# Altium footprint library AG.LED.PcbLib: 7 footprints
Each footprint in its own frame and in the unit in brackets; x right, y up, seen from the top. Pads: shape width x height; smd on the part's side, far side on the other; paste and mask are expansions set on the pad; w line width, h text height; cw(c..) or ccw(c..) is an arc to the next point about the centre after c.
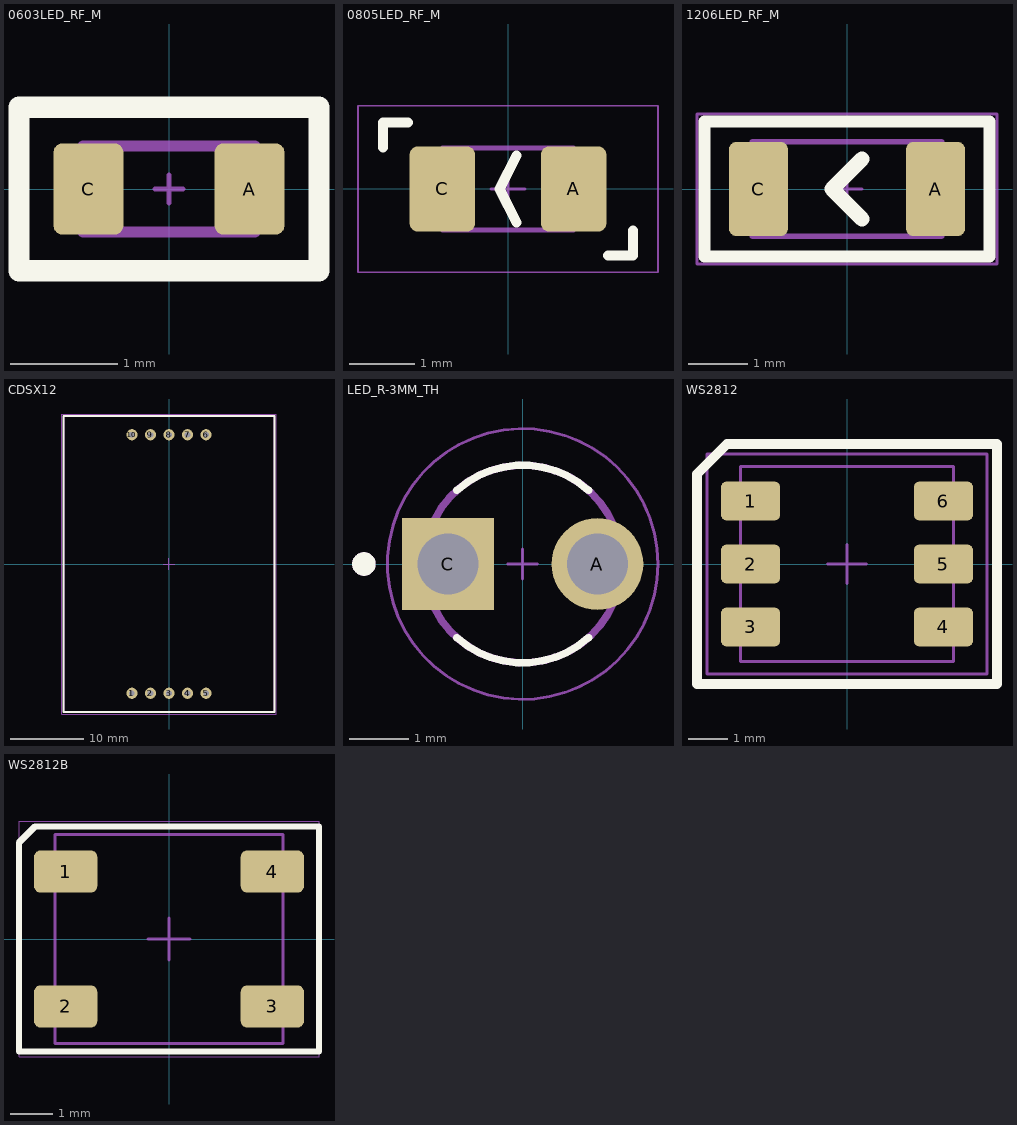
[diagram p0: the footprints below, top view; thin cyan lines are the x and y axes]

## 0603LED_RF_M [mm] "Chip LED 0603 Reflow Medium"
pads (2):
  rrect25% 0.65x0.85 smd: A(0.75,0) C(-0.75,0)
Top Overlay:
  lines w0.2: -1.397,-0.762 -1.397,0.762 1.397,0.762 1.397,-0.762 -1.397,-0.762
Mechanical 13:
  lines w0.1: -0.8,-0.4 -0.8,0.4 0.8,0.4 0.8,-0.4 -0.8,-0.4
Mechanical 15:
  lines w0.05: -0.127,0 0.127,0 ; 0,-0.127 0,0.127 ; -1.397,-0.762 1.397,-0.762 1.397,0.762 -1.397,0.762 -1.397,-0.762
3D body "LED-150060AS75000_WL-SMCW-0603.stp": height 0.7, standoff 0, extent -0.8,-0.4 0.8,0.4

## 0805LED_RF_M [mm] "Chip LED 0805 Reflow Medium"
pads (2):
  rrect25% 1x1.3 smd: A(1,0) C(-1,0)
Top Overlay:
  lines w0.152: -1.905,0.635 -1.905,1.016 -1.524,1.016 ; 0.127,-0.508 -0.127,0 0.127,0.508 ; 1.524,-1.016 1.905,-1.016 1.905,-0.635
Mechanical 13:
  lines w0.076: -1,-0.625 1,-0.625 1,0.625 -1,0.625 -1,-0.625
Mechanical 15:
  lines w0.025: -2.286,-1.27 2.286,-1.27 2.286,1.27 -2.286,1.27 -2.286,-1.27
  lines w0.051: -0.254,0 0.254,0 ; 0,-0.254 0,0.254
3D body "LED-150080AS75000-WL-SMCW-0805.stp": height 0.7, standoff 0, extent -1,-0.625 1,0.625

## 1206LED_RF_M [mm] "Chip LED 1206 Reflow Medium"
pads (2):
  rrect25% 1x1.6 smd: A(1.5,0) C(-1.5,0)
Top Overlay:
  lines w0.2: -2.413,-1.143 -2.413,1.143 2.413,1.143 2.413,-1.143 -2.413,-1.143
  lines w0.254: 0.254,-0.508 -0.254,0 0.254,0.508
Mechanical 13:
  lines w0.1: -1.6,-0.8 -1.6,0.8 1.6,0.8 1.6,-0.8 -1.6,-0.8
Mechanical 15:
  lines w0.05: -0.254,0 0.254,0 ; 0,-0.254 0,0.254 ; -2.54,-1.27 -2.54,1.27 2.54,1.27 2.54,-1.27 -2.54,-1.27
3D body "150120AS75000_Download_STP_WL-SMCW-1206_rev1.stp": height 0.68, standoff 0, extent -1.6,-0.8 1.6,0.8

## CDSX12 [mil] "DISPLAY 7SEG 1.20\" SGL RED DIP-10"
height 354
pads (10):
  round 60 hole 30: 1(-200,-698) 2(-100,-698) 3(0,-698) 4(100,-698) 5(200,-698) 6(200,698) 7(100,698) 8(0,698) 9(-100,698) 10(-200,698)
Top Overlay:
  lines w10: -570,-800 -570,800 570,800 570,-800 -570,-800
Mechanical 13:
  lines w3: -567,-801 -567,801 567,801 567,-801 -567,-801
Mechanical 15:
  lines w2: -30,0 30,0 ; 0,-30 0,30 ; -580,-810 -580,810 580,810 580,-810 -580,-810

## LED_R-3MM_TH [mm] "LED Radial 3mm Through Hole"
height 4.5
pads (2):
  round 1.56 hole 1.04: A(1.27,0)
  rect 1.56x1.56 hole 1.04: C(-1.27,0)
Top Overlay:
  circle w0.2: c-2.7,0 r0.1
  lines w0.127: -1.12,-1.25 ccw(c0,-0.006) 1.12,-1.25 ; -1.12,1.25 cw(c0,0.006) 1.12,1.25
Mechanical 13:
  circle w0.2: c-2.7,0 r0.1
  circle w0.127: c0,0 r1.68
Mechanical 15:
  circle w0.05: c0,0 r2.3
  lines w0.05: -0.254,0 0.254,0 ; 0,-0.254 0,0.254
3D body "LED-3mm-Red.STEP": height 3.89, standoff -2.99, extent -1.52,-1.923 1.925,1.923

## WS2812 [mm]
pads (6):
  rrect30% 1.5x1 smd: 1(-2.45,1.6) 2(-2.45,0) 3(-2.45,-1.6) 4(2.45,-1.6) 5(2.45,0) 6(2.45,1.6)
Top Overlay:
  lines w0.254: -3.81,-3.048 -3.81,2.286 -3.048,3.048 3.81,3.048 3.81,-3.048 -3.81,-3.048
Mechanical 13:
  lines w0.076: -2.7,-2.475 2.7,-2.475 2.7,2.475 -2.7,2.475 -2.7,-2.475
Mechanical 15:
  lines w0.076: -0.5,0 0.5,0 ; 0,-0.5 0,0.5 ; -3.556,-2.794 -3.556,2.794 3.556,2.794 3.556,-2.794 -3.556,-2.794
3D body "WS2812S.STEP": height 1.6, standoff 0, extent -2.7,-2.475 2.7,2.475

## WS2812B [mm]
pads (4):
  rrect30% 1.5x1 smd: 1(-2.45,1.6) 2(-2.45,-1.6) 3(2.45,-1.6) 4(2.45,1.6)
Top Overlay:
  lines w0.152: -3.556,-2.667 3.556,-2.667 3.556,2.667 -3.175,2.667 -3.556,2.286 -3.556,-2.667
Mechanical 13:
  lines w0.076: -2.7,-2.475 -2.7,2.475 2.7,2.475 2.7,-2.475 -2.7,-2.475
Mechanical 15:
  lines w0.025: -3.556,-2.794 3.556,-2.794 3.556,2.794 -3.556,2.794 -3.556,-2.794
  lines w0.076: -0.5,0 0.5,0 ; 0,-0.5 0,0.5
3D body "WS2812S.STEP": height 1.6, standoff 0, extent -2.7,-2.475 2.7,2.475